# Altium integrated library Xilinx XA9500XL FPGA.IntLib: 360 symbols (part 1 of 3)
Pins are listed as number, name and electrical type; pins without a type are passive.

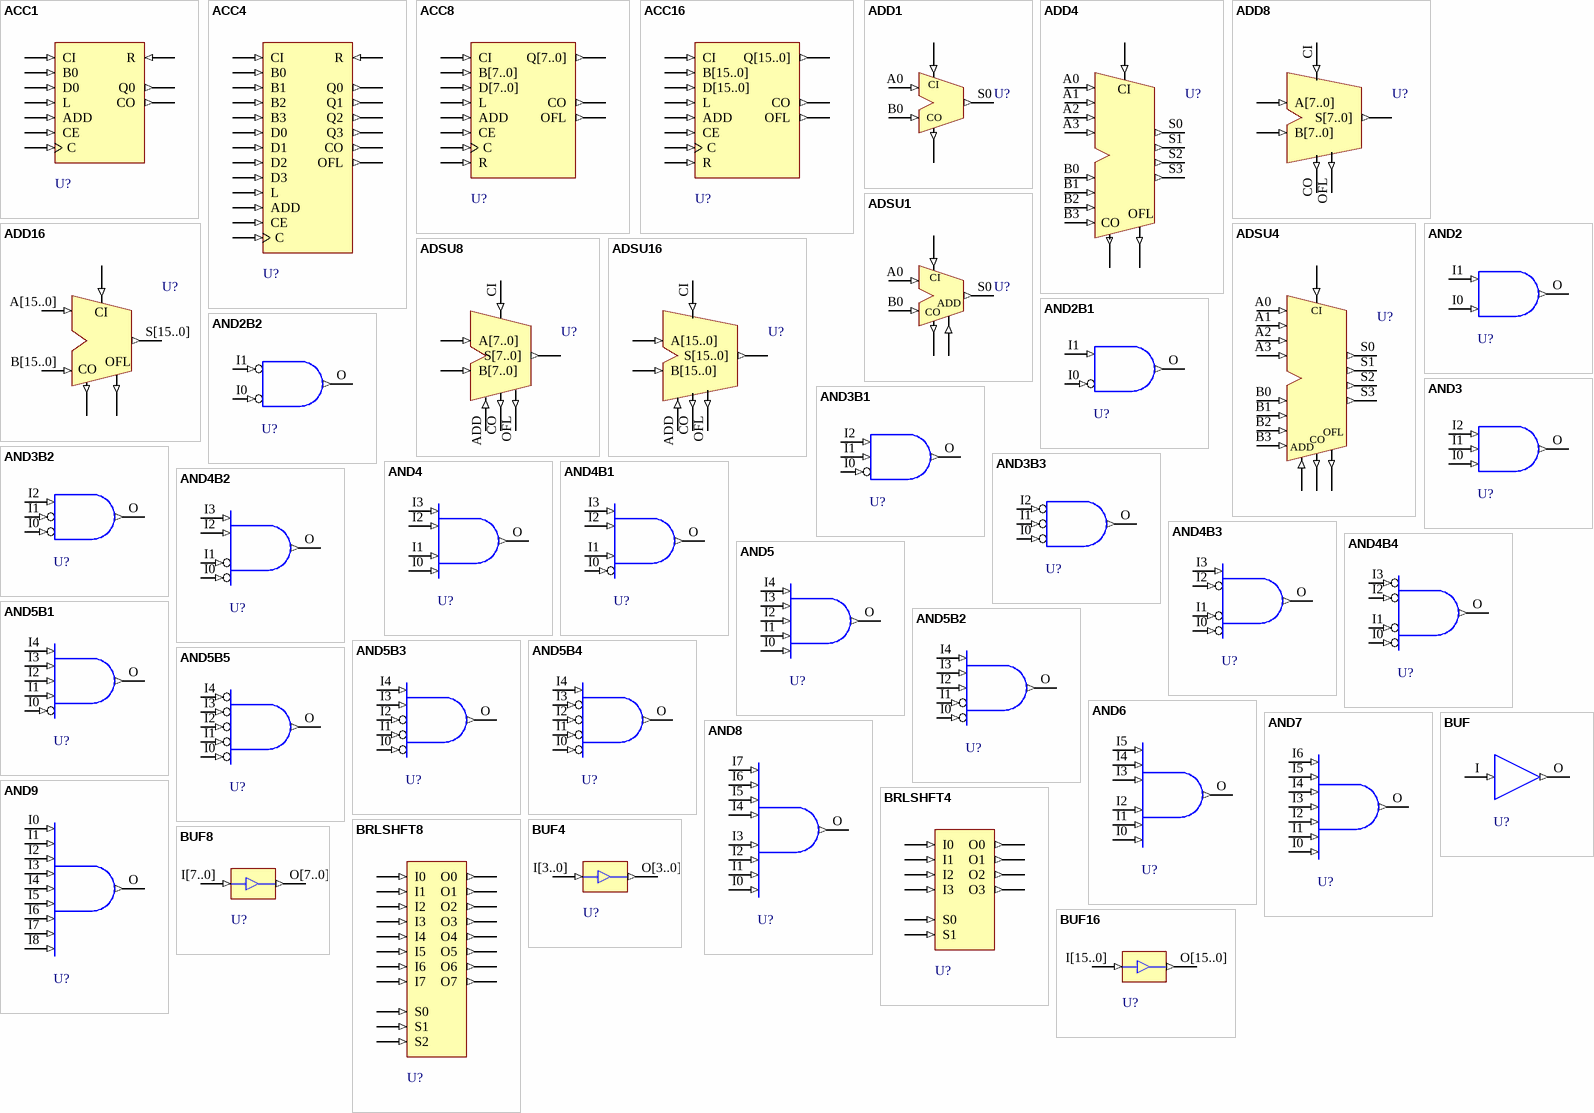
[diagram p0: symbols ACC1 to BUF16]

## ACC1
designator U?
1-Bit Loadable Cascadable Accumulator with Carry-In, Carry-Out and Synchronous Reset; FPGAVendor: Xilinx; Published: 15-Sep-2003; Publisher: Altium Limited; HelpURL: http://toolbox.xilinx.com/docsan/xilinx7/books/docs/lib/lib.pdf
pins: ADD (in), B0 (in), C (in), CE (in), CI (in), CO (out), D0 (in), L (in), Q0 (out), R (in)

## ACC4
designator U?
4-Bit Loadable Cascadable Accumulator with Carry-In, Carry-Out and Synchronous Reset; FPGAVendor: Xilinx; Published: 15-Sep-2003; Publisher: Altium Limited; HelpURL: http://toolbox.xilinx.com/docsan/xilinx7/books/docs/lib/lib.pdf
pins: ADD (in), B0 (in), B1 (in), B2 (in), B3 (in), C (in), CE (in), CI (in), CO (out), D0 (in), D1 (in), D2 (in), D3 (in), L (in), OFL (out), Q0 (out), Q1 (out), Q2 (out), Q3 (out), R (in)

## ACC8
designator U?
8-Bit Loadable Cascadable Accumulator with Carry-In, Carry-Out and Synchronous Reset; FPGAVendor: Xilinx; Published: 15-Sep-2003; Publisher: Altium Limited; HelpURL: http://toolbox.xilinx.com/docsan/xilinx7/books/docs/lib/lib.pdf
pins: ADD (in), B[7..0] (in), C (in), CE (in), CI (in), CO (out), D[7..0] (in), L (in), OFL (out), Q[7..0] (out), R (in)

## ACC16
designator U?
16-Bit Loadable Cascadable Accumulator with Carry-In, Carry-Out and Synchronous Reset; FPGAVendor: Xilinx; Published: 15-Sep-2003; Publisher: Altium Limited; HelpURL: http://toolbox.xilinx.com/docsan/xilinx7/books/docs/lib/lib.pdf
pins: ADD (in), B[15..0] (in), C (in), CE (in), CI (in), CO (out), D[15..0] (in), L (in), OFL (out), Q[15..0] (out), R (in)

## ADD1
designator U?
1-Bit Full Adder with Carry-In and Carry-Out; FPGAVendor: Xilinx; Published: 15-Sep-2003; Publisher: Altium Limited; HelpURL: http://toolbox.xilinx.com/docsan/xilinx7/books/docs/lib/lib.pdf
pins: A0 (in), B0 (in), CI (in), CO (out), S0 (out)

## ADD4
designator U?
4-Bit Cascadable Full Adders with Carry-In, Carry-Out and Overflow; FPGAVendor: Xilinx; Published: 15-Sep-2003; Publisher: Altium Limited; HelpURL: http://toolbox.xilinx.com/docsan/xilinx7/books/docs/lib/lib.pdf
pins: A0 (in), A1 (in), A2 (in), A3 (in), B0 (in), B1 (in), B2 (in), B3 (in), CI (in), CO (out), OFL (out), S0 (out), S1 (out), S2 (out), S3 (out)

## ADD8
designator U?
8-Bit Cascadable Full Adders with Carry-In, Carry-Out and Overflow; FPGAVendor: Xilinx; Published: 15-Sep-2003; Publisher: Altium Limited; HelpURL: http://toolbox.xilinx.com/docsan/xilinx7/books/docs/lib/lib.pdf
pins: A[7..0] (in), B[7..0] (in), CI (in), CO (out), OFL (out), S[7..0] (out)

## ADD16
designator U?
16-Bit Cascadable Full Adders with Carry-In, Carry-Out and Overflow; FPGAVendor: Xilinx; Published: 15-Sep-2003; Publisher: Altium Limited; HelpURL: http://toolbox.xilinx.com/docsan/xilinx7/books/docs/lib/lib.pdf
pins: A[15..0] (in), B[15..0] (in), CI (in), CO (out), OFL (out), S[15..0] (out)

## ADSU1
designator U?
1-Bit Cascadable Adder/Subtracter with Carry-In and Carry-Out; FPGAVendor: Xilinx; Published: 15-Sep-2003; Publisher: Altium Limited; HelpURL: http://toolbox.xilinx.com/docsan/xilinx7/books/docs/lib/lib.pdf
pins: A0 (in), ADD (in), B0 (in), CI (in), CO (out), S0 (out)

## ADSU4
designator U?
4-Bit Cascadable Adders/Subtracters with Carry-In, Carry-Out and Overflow; FPGAVendor: Xilinx; Published: 15-Sep-2003; Publisher: Altium Limited; HelpURL: http://toolbox.xilinx.com/docsan/xilinx7/books/docs/lib/lib.pdf
pins: A0 (in), A1 (in), A2 (in), A3 (in), ADD (in), B0 (in), B1 (in), B2 (in), B3 (in), CI (in), CO (out), OFL (out), S0 (out), S1 (out), S2 (out), S3 (out)

## ADSU8
designator U?
8-Bit Cascadable Adders/Subtracters with Carry-In, Carry-Out and Overflow; FPGAVendor: Xilinx; Published: 15-Sep-2003; Publisher: Altium Limited; HelpURL: http://toolbox.xilinx.com/docsan/xilinx7/books/docs/lib/lib.pdf
pins: A[7..0] (in), ADD (in), B[7..0] (in), CI (in), CO (out), OFL (out), S[7..0] (out)

## ADSU16
designator U?
16-Bit Cascadable Adders/Subtracters with Carry-In, Carry-Out and Overflow; FPGAVendor: Xilinx; Published: 15-Sep-2003; Publisher: Altium Limited; HelpURL: http://toolbox.xilinx.com/docsan/xilinx7/books/docs/lib/lib.pdf
pins: A[15..0] (in), ADD (in), B[15..0] (in), CI (in), CO (out), OFL (out), S[15..0] (out)

## AND2
designator U?
2-Input AND Gate; FPGAVendor: Xilinx; Published: 15-Sep-2003; Publisher: Altium Limited; HelpURL: http://toolbox.xilinx.com/docsan/xilinx7/books/docs/lib/lib.pdf
pins: I0 (in), I1 (in), O (out)

## AND2B1
designator U?
2-Input AND Gate with One Inverted Input; FPGAVendor: Xilinx; Published: 15-Sep-2003; Publisher: Altium Limited; HelpURL: http://toolbox.xilinx.com/docsan/xilinx7/books/docs/lib/lib.pdf
pins: I0 (in), I1 (in), O (out)

## AND2B2
designator U?
2-Input AND Gate with Two Inverted Inputs; FPGAVendor: Xilinx; Published: 15-Sep-2003; Publisher: Altium Limited; HelpURL: http://toolbox.xilinx.com/docsan/xilinx7/books/docs/lib/lib.pdf
pins: I0 (in), I1 (in), O (out)

## AND3
designator U?
3-Input AND Gate; FPGAVendor: Xilinx; Published: 15-Sep-2003; Publisher: Altium Limited; HelpURL: http://toolbox.xilinx.com/docsan/xilinx7/books/docs/lib/lib.pdf
pins: I0 (in), I1 (in), I2 (in), O (out)

## AND3B1
designator U?
3-Input AND Gate with One Inverted Input; FPGAVendor: Xilinx; Published: 15-Sep-2003; Publisher: Altium Limited; HelpURL: http://toolbox.xilinx.com/docsan/xilinx7/books/docs/lib/lib.pdf
pins: I0 (in), I1 (in), I2 (in), O (out)

## AND3B2
designator U?
3-Input AND Gate with Two Inverted Inputs; FPGAVendor: Xilinx; Published: 15-Sep-2003; Publisher: Altium Limited; HelpURL: http://toolbox.xilinx.com/docsan/xilinx7/books/docs/lib/lib.pdf
pins: I0 (in), I1 (in), I2 (in), O (out)

## AND3B3
designator U?
3-Input AND Gate with Three Inverted Inputs; FPGAVendor: Xilinx; Published: 15-Sep-2003; Publisher: Altium Limited; HelpURL: http://toolbox.xilinx.com/docsan/xilinx7/books/docs/lib/lib.pdf
pins: I0 (in), I1 (in), I2 (in), O (out)

## AND4
designator U?
4-Input AND Gate; FPGAVendor: Xilinx; Published: 15-Sep-2003; Publisher: Altium Limited; HelpURL: http://toolbox.xilinx.com/docsan/xilinx7/books/docs/lib/lib.pdf
pins: I0 (in), I1 (in), I2 (in), I3 (in), O (out)

## AND4B1
designator U?
4-Input AND Gate with One Inverted Input; FPGAVendor: Xilinx; Published: 15-Sep-2003; Publisher: Altium Limited; HelpURL: http://toolbox.xilinx.com/docsan/xilinx7/books/docs/lib/lib.pdf
pins: I0 (in), I1 (in), I2 (in), I3 (in), O (out)

## AND4B2
designator U?
4-Input AND Gate with Two Inverted Inputs; FPGAVendor: Xilinx; Published: 15-Sep-2003; Publisher: Altium Limited; HelpURL: http://toolbox.xilinx.com/docsan/xilinx7/books/docs/lib/lib.pdf
pins: I0 (in), I1 (in), I2 (in), I3 (in), O (out)

## AND4B3
designator U?
4-Input AND Gate with Three Inverted Inputs; FPGAVendor: Xilinx; Published: 15-Sep-2003; Publisher: Altium Limited; HelpURL: http://toolbox.xilinx.com/docsan/xilinx7/books/docs/lib/lib.pdf
pins: I0 (in), I1 (in), I2 (in), I3 (in), O (out)

## AND4B4
designator U?
4-Input AND Gate with Four Inverted Inputs; FPGAVendor: Xilinx; Published: 15-Sep-2003; Publisher: Altium Limited; HelpURL: http://toolbox.xilinx.com/docsan/xilinx7/books/docs/lib/lib.pdf
pins: I0 (in), I1 (in), I2 (in), I3 (in), O (out)

## AND5
designator U?
5-Input AND Gate; FPGAVendor: Xilinx; Published: 15-Sep-2003; Publisher: Altium Limited; HelpURL: http://toolbox.xilinx.com/docsan/xilinx7/books/docs/lib/lib.pdf
pins: I0 (in), I1 (in), I2 (in), I3 (in), I4 (in), O (out)

## AND5B1
designator U?
5-Input AND Gate with One Inverted Input; FPGAVendor: Xilinx; Published: 15-Sep-2003; Publisher: Altium Limited; HelpURL: http://toolbox.xilinx.com/docsan/xilinx7/books/docs/lib/lib.pdf
pins: I0 (in), I1 (in), I2 (in), I3 (in), I4 (in), O (out)

## AND5B2
designator U?
5-Input AND Gate with Two Inverted Inputs; FPGAVendor: Xilinx; Published: 15-Sep-2003; Publisher: Altium Limited; HelpURL: http://toolbox.xilinx.com/docsan/xilinx7/books/docs/lib/lib.pdf
pins: I0 (in), I1 (in), I2 (in), I3 (in), I4 (in), O (out)

## AND5B3
designator U?
5-Input AND Gate with Three Inverted Inputs; FPGAVendor: Xilinx; Published: 15-Sep-2003; Publisher: Altium Limited; HelpURL: http://toolbox.xilinx.com/docsan/xilinx7/books/docs/lib/lib.pdf
pins: I0 (in), I1 (in), I2 (in), I3 (in), I4 (in), O (out)

## AND5B4
designator U?
5-Input AND Gate with Four Inverted Inputs; FPGAVendor: Xilinx; Published: 15-Sep-2003; Publisher: Altium Limited; HelpURL: http://toolbox.xilinx.com/docsan/xilinx7/books/docs/lib/lib.pdf
pins: I0 (in), I1 (in), I2 (in), I3 (in), I4 (in), O (out)

## AND5B5
designator U?
5-Input AND Gate with Five Inverted Inputs; FPGAVendor: Xilinx; Published: 15-Sep-2003; Publisher: Altium Limited; HelpURL: http://toolbox.xilinx.com/docsan/xilinx7/books/docs/lib/lib.pdf
pins: I0 (in), I1 (in), I2 (in), I3 (in), I4 (in), O (out)

## AND6
designator U?
6-Input AND Gate; FPGAVendor: Xilinx; Published: 15-Sep-2003; Publisher: Altium Limited; HelpURL: http://toolbox.xilinx.com/docsan/xilinx7/books/docs/lib/lib.pdf
pins: I0 (in), I1 (in), I2 (in), I3 (in), I4 (in), I5 (in), O (out)

## AND7
designator U?
7-Input AND Gate; FPGAVendor: Xilinx; Published: 15-Sep-2003; Publisher: Altium Limited; HelpURL: http://toolbox.xilinx.com/docsan/xilinx7/books/docs/lib/lib.pdf
pins: I0 (in), I1 (in), I2 (in), I3 (in), I4 (in), I5 (in), I6 (in), O (out)

## AND8
designator U?
8-Input AND Gate; FPGAVendor: Xilinx; Published: 15-Sep-2003; Publisher: Altium Limited; HelpURL: http://toolbox.xilinx.com/docsan/xilinx7/books/docs/lib/lib.pdf
pins: I0 (in), I1 (in), I2 (in), I3 (in), I4 (in), I5 (in), I6 (in), I7 (in), O (out)

## AND9
designator U?
9-Input AND Gate; FPGAVendor: Xilinx; Published: 15-Sep-2003; Publisher: Altium Limited; HelpURL: http://toolbox.xilinx.com/docsan/xilinx7/books/docs/lib/lib.pdf
pins: I0 (in), I1 (in), I2 (in), I3 (in), I4 (in), I5 (in), I6 (in), I7 (in), I8 (in), O (out)

## BRLSHFT4
designator U?
4-Bit Barrel Shifter; FPGAVendor: Xilinx; Published: 15-Sep-2003; Publisher: Altium Limited; HelpURL: http://toolbox.xilinx.com/docsan/xilinx7/books/docs/lib/lib.pdf
pins: I0 (in), I1 (in), I2 (in), I3 (in), O0 (out), O1 (out), O2 (out), O3 (out), S0 (in), S1 (in)

## BRLSHFT8
designator U?
8-Bit Barrel Shifter; FPGAVendor: Xilinx; Published: 15-Sep-2003; Publisher: Altium Limited; HelpURL: http://toolbox.xilinx.com/docsan/xilinx7/books/docs/lib/lib.pdf
pins: I0 (in), I1 (in), I2 (in), I3 (in), I4 (in), I5 (in), I6 (in), I7 (in), O0 (out), O1 (out), O2 (out), O3 (out), O4 (out), O5 (out), O6 (out), O7 (out), S0 (in), S1 (in), S2 (in)

## BUF
designator U?
Global Clock Buffer; FPGAVendor: Xilinx; Published: 15-Sep-2003; Publisher: Altium Limited; HelpURL: http://toolbox.xilinx.com/docsan/xilinx7/books/docs/lib/lib.pdf
pins: I (in), O (out)

## BUF4
designator U?
General-Purpose Buffer; FPGAVendor: Xilinx; Published: 15-Sep-2003; Publisher: Altium Limited; HelpURL: http://toolbox.xilinx.com/docsan/xilinx7/books/docs/lib/lib.pdf
pins: I[3..0] (in), O[3..0] O0 (out)

## BUF8
designator U?
General-Purpose Buffer; FPGAVendor: Xilinx; Published: 15-Sep-2003; Publisher: Altium Limited; HelpURL: http://toolbox.xilinx.com/docsan/xilinx7/books/docs/lib/lib.pdf
pins: I[7..0] (in), O[7..0] (out)

## BUF16
designator U?
General-Purpose Buffer; FPGAVendor: Xilinx; Published: 15-Sep-2003; Publisher: Altium Limited; HelpURL: http://toolbox.xilinx.com/docsan/xilinx7/books/docs/lib/lib.pdf
pins: I[15..0] (in), O[15..0] (out)

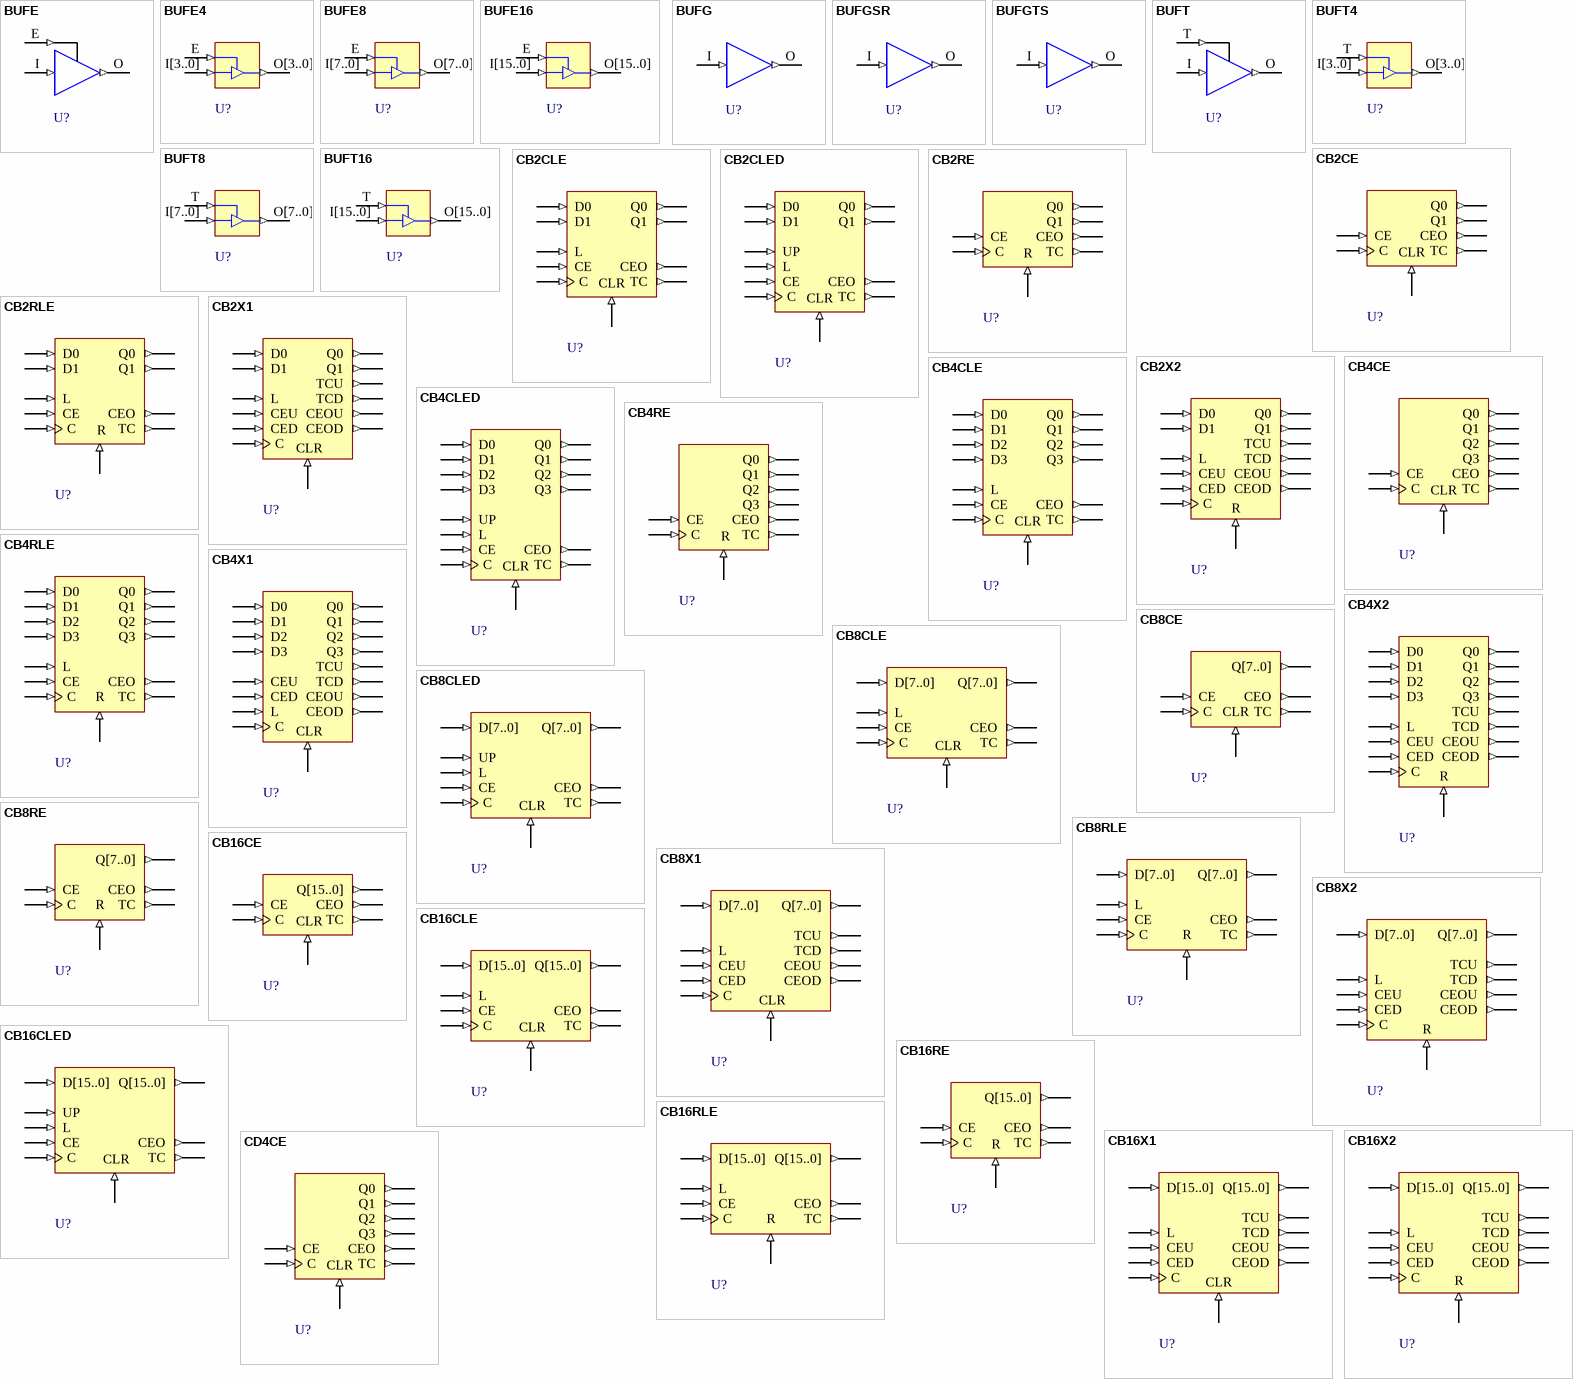
[diagram p1: symbols BUFE to CD4CE]

## BUFE
designator U?
Internal 3-State Buffers with Active High Enable; FPGAVendor: Xilinx; Published: 15-Sep-2003; Publisher: Altium Limited; HelpURL: http://toolbox.xilinx.com/docsan/xilinx7/books/docs/lib/lib.pdf
pins: E (in), I (in), O (out)

## BUFE4
designator U?
Internal 3-State Buffers with Active High Enable; FPGAVendor: Xilinx; Published: 15-Sep-2003; Publisher: Altium Limited; HelpURL: http://toolbox.xilinx.com/docsan/xilinx7/books/docs/lib/lib.pdf
pins: E (in), I[3..0] (in), O[3..0] (out)

## BUFE8
designator U?
Internal 3-State Buffers with Active High Enable; FPGAVendor: Xilinx; Published: 15-Sep-2003; Publisher: Altium Limited; HelpURL: http://toolbox.xilinx.com/docsan/xilinx7/books/docs/lib/lib.pdf
pins: E (in), I[7..0] (in), O[7..0] (out)

## BUFE16
designator U?
Internal 3-State Buffers with Active High Enable; FPGAVendor: Xilinx; Published: 15-Sep-2003; Publisher: Altium Limited; HelpURL: http://toolbox.xilinx.com/docsan/xilinx7/books/docs/lib/lib.pdf
pins: E (in), I[15..0] (in), O[15..0] (out)

## BUFG
designator U?
Global Clock Buffer; FPGAVendor: Xilinx; Published: 15-Sep-2003; Publisher: Altium Limited; HelpURL: http://toolbox.xilinx.com/docsan/xilinx7/books/docs/lib/lib.pdf
pins: I (in), O (out)

## BUFGSR
designator U?
Global Set/Reset Input Buffer; FPGAVendor: Xilinx; Published: 15-Sep-2003; Publisher: Altium Limited; HelpURL: http://toolbox.xilinx.com/docsan/xilinx7/books/docs/lib/lib.pdf
pins: I (in), O (out)

## BUFGTS
designator U?
Global Three-State Input Buffer; FPGAVendor: Xilinx; Published: 15-Sep-2003; Publisher: Altium Limited; HelpURL: http://toolbox.xilinx.com/docsan/xilinx7/books/docs/lib/lib.pdf
pins: I (in), O (out)

## BUFT
designator U?
Internal 3-State Buffer with Active-Low Enable; FPGAVendor: Xilinx; Note: not supported for XC9500XL and XC9500XV devices; Published: 15-Sep-2003; Publisher: Altium Limited; HelpURL: http://toolbox.xilinx.com/docsan/xilinx7/books/docs/lib/lib.pdf
pins: I (in), O (out), T (in)

## BUFT4
designator U?
Internal 3-State Buffers with Active-Low Enable; FPGAVendor: Xilinx; Note: not supported for XC9500XL and XC9500XV devices; Published: 15-Sep-2003; Publisher: Altium Limited; HelpURL: http://toolbox.xilinx.com/docsan/xilinx7/books/docs/lib/lib.pdf
pins: I[3..0] (in), O[3..0] (out), T (in)

## BUFT8
designator U?
Internal 3-State Buffers with Active-Low Enable; FPGAVendor: Xilinx; Note: not supported for XC9500XL and XC9500XV devices; Published: 15-Sep-2003; Publisher: Altium Limited; HelpURL: http://toolbox.xilinx.com/docsan/xilinx7/books/docs/lib/lib.pdf
pins: I[7..0] (in), O[7..0] (out), T (in)

## BUFT16
designator U?
Internal 3-State Buffers with Active-Low Enable; FPGAVendor: Xilinx; Note: not supported for XC9500XL and XC9500XV devices; Published: 15-Sep-2003; Publisher: Altium Limited; HelpURL: http://toolbox.xilinx.com/docsan/xilinx7/books/docs/lib/lib.pdf
pins: I[15..0] (in), O[15..0] (out), T (in)

## CB2CE
designator U?
2-Bit Cascadable Binary Counter with Clock Enable and Asynchronous Clear; FPGAVendor: Xilinx; Published: 15-Sep-2003; Publisher: Altium Limited; HelpURL: http://toolbox.xilinx.com/docsan/xilinx7/books/docs/lib/lib.pdf
pins: C (in), CE (in), CEO (out), CLR (in), Q0 (out), Q1 (out), TC (out)

## CB2CLE
designator U?
2-Bit Loadable Cascadable Binary Counter with Clock Enable and Asynchronous Clear; FPGAVendor: Xilinx; Published: 15-Sep-2003; Publisher: Altium Limited; HelpURL: http://toolbox.xilinx.com/docsan/xilinx7/books/docs/lib/lib.pdf
pins: C (in), CE (in), CEO (out), CLR (in), D0 (in), D1 (in), L (in), Q0 (out), Q1 (out), TC (out)

## CB2CLED
designator U?
2-Bit Loadable Cascadable Bidirectional Binary Counter with Clock Enable and Asynchronous Clear; FPGAVendor: Xilinx; Published: 15-Sep-2003; Publisher: Altium Limited; HelpURL: http://toolbox.xilinx.com/docsan/xilinx7/books/docs/lib/lib.pdf
pins: C (in), CE (in), CEO (out), CLR (in), D0 (in), D1 (in), L (in), Q0 (out), Q1 (out), TC (out), UP (in)

## CB2RE
designator U?
2-Bit Cascadable Binary Counter with Clock Enable and Synchronous Reset; FPGAVendor: Xilinx; Published: 15-Sep-2003; Publisher: Altium Limited; HelpURL: http://toolbox.xilinx.com/docsan/xilinx7/books/docs/lib/lib.pdf
pins: C (in), CE (in), CEO (out), Q0 (out), Q1 (out), R (in), TC (out)

## CB2RLE
designator U?
2-Bit Loadable Cascadable Binary Counter with Clock Enable and Synchronous Reset; FPGAVendor: Xilinx; Published: 15-Sep-2003; Publisher: Altium Limited; HelpURL: http://toolbox.xilinx.com/docsan/xilinx7/books/docs/lib/lib.pdf
pins: C (in), CE (in), CEO (out), D0 (in), D1 (in), L (in), Q0 (out), Q1 (out), R (in), TC (out)

## CB2X1
designator U?
2-Bit Loadable Cascadable Bidirectional Binary Counter with Clock Enable and Asynchronous Clear; FPGAVendor: Xilinx; Published: 15-Sep-2003; Publisher: Altium Limited; HelpURL: http://toolbox.xilinx.com/docsan/xilinx7/books/docs/lib/lib.pdf
pins: C (in), CED (in), CEOD (out), CEOU (out), CEU (in), CLR (in), D0 (in), D1 (in), L (in), Q0 (out), Q1 (out), TCD (out), TCU (out)

## CB2X2
designator U?
2-Bit Loadable Cascadable Bidirectional Binary Counter with Clock Enable and Synchronous Reset; FPGAVendor: Xilinx; Published: 15-Sep-2003; Publisher: Altium Limited; HelpURL: http://toolbox.xilinx.com/docsan/xilinx7/books/docs/lib/lib.pdf
pins: C (in), CED (in), CEOD (out), CEOU (out), CEU (in), D0 (in), D1 (in), L (in), Q0 (out), Q1 (out), R (in), TCD (out), TCU (out)

## CB4CE
designator U?
4-Bit Cascadable Binary Counter with Clock Enable and Asynchronous Clear; FPGAVendor: Xilinx; Published: 15-Sep-2003; Publisher: Altium Limited; HelpURL: http://toolbox.xilinx.com/docsan/xilinx7/books/docs/lib/lib.pdf
pins: C (in), CE (in), CEO (out), CLR (in), Q0 (out), Q1 (out), Q2 (out), Q3 (out), TC (out)

## CB4CLE
designator U?
4-Bit Loadable Cascadable Binary Counter with Clock Enable and Asynchronous Clear; FPGAVendor: Xilinx; Published: 15-Sep-2003; Publisher: Altium Limited; HelpURL: http://toolbox.xilinx.com/docsan/xilinx7/books/docs/lib/lib.pdf
pins: C (in), CE (in), CEO (out), CLR (in), D0 (in), D1 (in), D2 (in), D3 (in), L (in), Q0 (out), Q1 (out), Q2 (out), Q3 (out), TC (out)

## CB4CLED
designator U?
4-Bit Loadable Cascadable Bidirectional Binary Counter with Clock Enable and Asynchronous Clear; FPGAVendor: Xilinx; Published: 15-Sep-2003; Publisher: Altium Limited; HelpURL: http://toolbox.xilinx.com/docsan/xilinx7/books/docs/lib/lib.pdf
pins: C (in), CE (in), CEO (out), CLR (in), D0 (in), D1 (in), D2 (in), D3 (in), L (in), Q0 (out), Q1 (out), Q2 (out), Q3 (out), TC (out), UP (in)

## CB4RE
designator U?
4-Bit Cascadable Binary Counter with Clock Enable and Synchronous Reset; FPGAVendor: Xilinx; Published: 15-Sep-2003; Publisher: Altium Limited; HelpURL: http://toolbox.xilinx.com/docsan/xilinx7/books/docs/lib/lib.pdf
pins: C (in), CE (in), CEO (out), Q0 (out), Q1 (out), Q2 (out), Q3 (out), R (in), TC (out)

## CB4RLE
designator U?
4-Bit Loadable Cascadable Binary Counter with Clock Enable and Synchronous Reset; FPGAVendor: Xilinx; Published: 15-Sep-2003; Publisher: Altium Limited; HelpURL: http://toolbox.xilinx.com/docsan/xilinx7/books/docs/lib/lib.pdf
pins: C (in), CE (in), CEO (out), D0 (in), D1 (in), D2 (in), D3 (in), L (in), Q0 (out), Q1 (out), Q2 (out), Q3 (out), R (in), TC (out)

## CB4X1
designator U?
4-Bit Loadable Cascadable Bidirectional Binary Counter with Clock Enable and Asynchronous Clear; FPGAVendor: Xilinx; Published: 15-Sep-2003; Publisher: Altium Limited; HelpURL: http://toolbox.xilinx.com/docsan/xilinx7/books/docs/lib/lib.pdf
pins: C (in), CED (in), CEOD (out), CEOU (out), CEU (in), CLR (in), D0 (in), D1 (in), D2 (in), D3 (in), L (in), Q0 (out), Q1 (out), Q2 (out), Q3 (out), TCD (out), TCU (out)

## CB4X2
designator U?
4-Bit Loadable Cascadable Bidirectional Binary Counter with Clock Enable and Synchronous Reset; FPGAVendor: Xilinx; Published: 15-Sep-2003; Publisher: Altium Limited; HelpURL: http://toolbox.xilinx.com/docsan/xilinx7/books/docs/lib/lib.pdf
pins: C (in), CED (in), CEOD (out), CEOU (out), CEU (in), D0 (in), D1 (in), D2 (in), D3 (in), L (in), Q0 (out), Q1 (out), Q2 (out), Q3 (out), R (in), TCD (out), TCU (out)

## CB8CE
designator U?
8-Bit Cascadable Binary Counter with Clock Enable and Asynchronous Clear; FPGAVendor: Xilinx; Published: 15-Sep-2003; Publisher: Altium Limited; HelpURL: http://toolbox.xilinx.com/docsan/xilinx7/books/docs/lib/lib.pdf
pins: C (in), CE (in), CEO (out), CLR (in), Q[7..0] (out), TC (out)

## CB8CLE
designator U?
8-Bit Loadable Cascadable Binary Counter with Clock Enable and Asynchronous Clear; FPGAVendor: Xilinx; Published: 15-Sep-2003; Publisher: Altium Limited; HelpURL: http://toolbox.xilinx.com/docsan/xilinx7/books/docs/lib/lib.pdf
pins: C (in), CE (in), CEO (out), CLR (in), D[7..0] (in), L (in), Q[7..0] (out), TC (out)

## CB8CLED
designator U?
8-Bit Loadable Cascadable Bidirectional Binary Counter with Clock Enable and Asynchronous Clear; FPGAVendor: Xilinx; Published: 15-Sep-2003; Publisher: Altium Limited; HelpURL: http://toolbox.xilinx.com/docsan/xilinx7/books/docs/lib/lib.pdf
pins: C (in), CE (in), CEO (out), CLR (in), D[7..0] (in), L (in), Q[7..0] (out), TC (out), UP (in)

## CB8RE
designator U?
8-Bit Cascadable Binary Counter with Clock Enable and Synchronous Reset; FPGAVendor: Xilinx; Published: 15-Sep-2003; Publisher: Altium Limited; HelpURL: http://toolbox.xilinx.com/docsan/xilinx7/books/docs/lib/lib.pdf
pins: C (in), CE (in), CEO (out), Q[7..0] (out), R (in), TC (out)

## CB8RLE
designator U?
8-Bit Loadable Cascadable Binary Counter with Clock Enable and Synchronous Reset; FPGAVendor: Xilinx; Published: 15-Sep-2003; Publisher: Altium Limited; HelpURL: http://toolbox.xilinx.com/docsan/xilinx7/books/docs/lib/lib.pdf
pins: C (in), CE (in), CEO (out), D[7..0] (in), L (in), Q[7..0] (out), R (in), TC (out)

## CB8X1
designator U?
8-Bit Loadable Cascadable Bidirectional Binary Counter with Clock Enable and Asynchronous Clear; FPGAVendor: Xilinx; Published: 15-Sep-2003; Publisher: Altium Limited; HelpURL: http://toolbox.xilinx.com/docsan/xilinx7/books/docs/lib/lib.pdf
pins: C (in), CED (in), CEOD (out), CEOU (out), CEU (in), CLR (in), D[7..0] (in), L (in), Q[7..0] (out), TCD (out), TCU (out)

## CB8X2
designator U?
8-Bit Loadable Cascadable Bidirectional Binary Counter with Clock Enable and Synchronous Reset; FPGAVendor: Xilinx; Published: 15-Sep-2003; Publisher: Altium Limited; HelpURL: http://toolbox.xilinx.com/docsan/xilinx7/books/docs/lib/lib.pdf
pins: C (in), CED (in), CEOD (out), CEOU (out), CEU (in), D[7..0] (in), L (in), Q[7..0] (out), R (in), TCD (out), TCU (out)

## CB16CE
designator U?
16-Bit Cascadable Binary Counter with Clock Enable and Asynchronous Clear; FPGAVendor: Xilinx; Published: 15-Sep-2003; Publisher: Altium Limited; HelpURL: http://toolbox.xilinx.com/docsan/xilinx7/books/docs/lib/lib.pdf
pins: C (in), CE (in), CEO (out), CLR (in), Q[15..0] (out), TC (out)

## CB16CLE
designator U?
16-Bit Loadable Cascadable Binary Counters with Clock Enable and Asynchronous Clear; FPGAVendor: Xilinx; Published: 15-Sep-2003; Publisher: Altium Limited; HelpURL: http://toolbox.xilinx.com/docsan/xilinx7/books/docs/lib/lib.pdf
pins: C (in), CE (in), CEO (out), CLR (in), D[15..0] (in), L (in), Q[15..0] (out), TC (out)

## CB16CLED
designator U?
16-Bit Loadable Cascadable Bidirectional Binary Counter with Clock Enable and Asynchronous Clear; FPGAVendor: Xilinx; Published: 15-Sep-2003; Publisher: Altium Limited; HelpURL: http://toolbox.xilinx.com/docsan/xilinx7/books/docs/lib/lib.pdf
pins: C (in), CE (in), CEO (out), CLR (in), D[15..0] (in), L (in), Q[15..0] (out), TC (out), UP (in)

## CB16RE
designator U?
16-Bit Cascadable Binary Counter with Clock Enable and Synchronous Reset; FPGAVendor: Xilinx; Published: 15-Sep-2003; Publisher: Altium Limited; HelpURL: http://toolbox.xilinx.com/docsan/xilinx7/books/docs/lib/lib.pdf
pins: C (in), CE (in), CEO (out), Q[15..0] (out), R (in), TC (out)

## CB16RLE
designator U?
16-Bit Loadable Cascadable Binary Counter with Clock Enable and Synchronous Reset; FPGAVendor: Xilinx; Published: 15-Sep-2003; Publisher: Altium Limited; HelpURL: http://toolbox.xilinx.com/docsan/xilinx7/books/docs/lib/lib.pdf
pins: C (in), CE (in), CEO (out), D[15..0] (in), L (in), Q[15..0] (out), R (in), TC (out)

## CB16X1
designator U?
16-Bit Loadable Cascadable Bidirectional Binary Counter with Clock Enable and Asynchronous Clear; FPGAVendor: Xilinx; Published: 15-Sep-2003; Publisher: Altium Limited; HelpURL: http://toolbox.xilinx.com/docsan/xilinx7/books/docs/lib/lib.pdf
pins: C (in), CED (in), CEOD (out), CEOU (out), CEU (in), CLR (in), D[15..0] (in), L (in), Q[15..0] (out), TCD (out), TCU (out)

## CB16X2
designator U?
16-Bit Loadable Cascadable Bidirectional Binary Counter with Clock Enable and Synchronous Reset; FPGAVendor: Xilinx; Published: 15-Sep-2003; Publisher: Altium Limited; HelpURL: http://toolbox.xilinx.com/docsan/xilinx7/books/docs/lib/lib.pdf
pins: C (in), CED (in), CEOD (out), CEOU (out), CEU (in), D[15..0] (in), L (in), Q[15..0] (out), R (in), TCD (out), TCU (out)

## CD4CE
designator U?
4-Bit Cascadable BCD Counter with Clock Enable and Asynchronous Clear; FPGAVendor: Xilinx; Published: 15-Sep-2003; Publisher: Altium Limited; HelpURL: http://toolbox.xilinx.com/docsan/xilinx7/books/docs/lib/lib.pdf
pins: C (in), CE (in), CEO (out), CLR (in), Q0 (out), Q1 (out), Q2 (out), Q3 (out), TC (out)

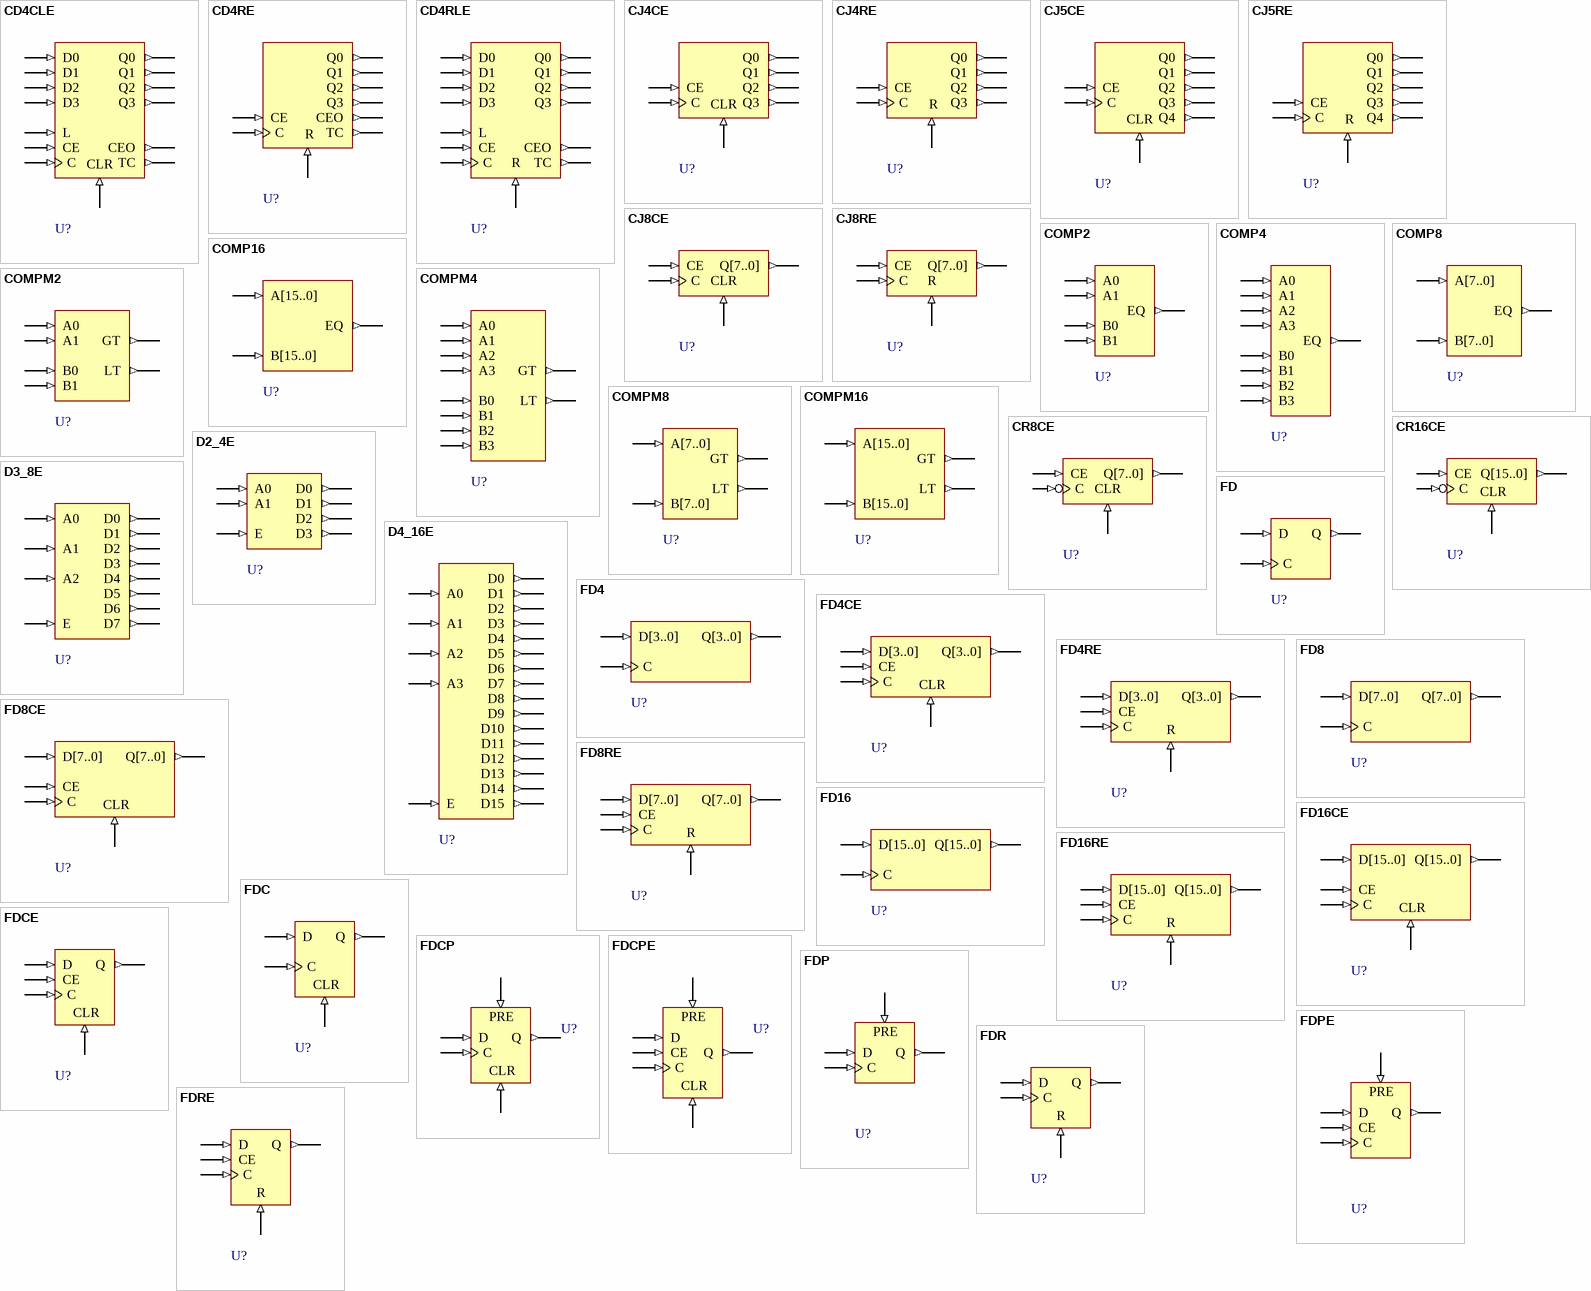
[diagram p2: symbols CD4CLE to FDRE]

## CD4CLE
designator U?
4-Bit Loadable Cascadable BCD Counter with Clock Enable and Asynchronous Clear; FPGAVendor: Xilinx; Published: 15-Sep-2003; Publisher: Altium Limited; HelpURL: http://toolbox.xilinx.com/docsan/xilinx7/books/docs/lib/lib.pdf
pins: C (in), CE (in), CEO (out), CLR (in), D0 (in), D1 (in), D2 (in), D3 (in), L (in), Q0 (out), Q1 (out), Q2 (out), Q3 (out), TC (out)

## CD4RE
designator U?
4-Bit Cascadable BCD Counter with Clock Enable and Synchronous Reset; FPGAVendor: Xilinx; Published: 15-Sep-2003; Publisher: Altium Limited; HelpURL: http://toolbox.xilinx.com/docsan/xilinx7/books/docs/lib/lib.pdf
pins: C (in), CE (in), CEO (out), Q0 (out), Q1 (out), Q2 (out), Q3 (out), R (in), TC (out)

## CD4RLE
designator U?
4-Bit Loadable Cascadable BCD Counter with Clock Enable and Synchronous Reset; FPGAVendor: Xilinx; Published: 15-Sep-2003; Publisher: Altium Limited; HelpURL: http://toolbox.xilinx.com/docsan/xilinx7/books/docs/lib/lib.pdf
pins: C (in), CE (in), CEO (out), D0 (in), D1 (in), D2 (in), D3 (in), L (in), Q0 (out), Q1 (out), Q2 (out), Q3 (out), R (in), TC (out)

## CJ4CE
designator U?
4-Bit Johnson Counter with Clock Enable and Asynchronous Clear; FPGAVendor: Xilinx; Published: 15-Sep-2003; Publisher: Altium Limited; HelpURL: http://toolbox.xilinx.com/docsan/xilinx7/books/docs/lib/lib.pdf
pins: C (in), CE (in), CLR (in), Q0 (out), Q1 (out), Q2 (out), Q3 (out)

## CJ4RE
designator U?
4-Bit Johnson Counter with Clock Enable and Synchronous Reset; FPGAVendor: Xilinx; Published: 15-Sep-2003; Publisher: Altium Limited; HelpURL: http://toolbox.xilinx.com/docsan/xilinx7/books/docs/lib/lib.pdf
pins: C (in), CE (in), Q0 (out), Q1 (out), Q2 (out), Q3 (out), R (in)

## CJ5CE
designator U?
5-Bit Johnson Counter with Clock Enable and Asynchronous Clear; FPGAVendor: Xilinx; Published: 15-Sep-2003; Publisher: Altium Limited; HelpURL: http://toolbox.xilinx.com/docsan/xilinx7/books/docs/lib/lib.pdf
pins: C (in), CE (in), CLR (in), Q0 (out), Q1 (out), Q2 (out), Q3 (out), Q4 (out)

## CJ5RE
designator U?
5-Bit Johnson Counters with Clock Enable and Synchronous Reset; FPGAVendor: Xilinx; Published: 15-Sep-2003; Publisher: Altium Limited; HelpURL: http://toolbox.xilinx.com/docsan/xilinx7/books/docs/lib/lib.pdf
pins: C (in), CE (in), Q0 (out), Q1 (out), Q2 (out), Q3 (out), Q4 (out), R (in)

## CJ8CE
designator U?
8-Bit Johnson Counter with Clock Enable and Asynchronous Clear; FPGAVendor: Xilinx; Published: 15-Sep-2003; Publisher: Altium Limited; HelpURL: http://toolbox.xilinx.com/docsan/xilinx7/books/docs/lib/lib.pdf
pins: C (in), CE (in), CLR (in), Q[7..0] (out)

## CJ8RE
designator U?
8-Bit Johnson Counter with Clock Enable and Synchronous Reset; FPGAVendor: Xilinx; Published: 15-Sep-2003; Publisher: Altium Limited; HelpURL: http://toolbox.xilinx.com/docsan/xilinx7/books/docs/lib/lib.pdf
pins: C (in), CE (in), Q[7..0] (out), R (in)

## COMP2
designator U?
2-Bit Identity Comparator; FPGAVendor: Xilinx; Published: 15-Sep-2003; Publisher: Altium Limited; HelpURL: http://toolbox.xilinx.com/docsan/xilinx7/books/docs/lib/lib.pdf
pins: A0 (in), A1 (in), B0 (in), B1 (in), EQ (out)

## COMP4
designator U?
4-Bit Identity Comparator; FPGAVendor: Xilinx; Published: 15-Sep-2003; Publisher: Altium Limited; HelpURL: http://toolbox.xilinx.com/docsan/xilinx7/books/docs/lib/lib.pdf
pins: A0 (in), A1 (in), A2 (in), A3 (in), B0 (in), B1 (in), B2 (in), B3 (in), EQ (out)

## COMP8
designator U?
8-Bit Identity Comparator; FPGAVendor: Xilinx; Published: 15-Sep-2003; Publisher: Altium Limited; HelpURL: http://toolbox.xilinx.com/docsan/xilinx7/books/docs/lib/lib.pdf
pins: A[7..0] (in), B[7..0] (in), EQ (out)

## COMP16
designator U?
16-Bit Identity Comparator; FPGAVendor: Xilinx; Published: 15-Sep-2003; Publisher: Altium Limited; HelpURL: http://toolbox.xilinx.com/docsan/xilinx7/books/docs/lib/lib.pdf
pins: A[15..0] (in), B[15..0] (in), EQ (out)

## COMPM2
designator U?
2-Bit Magnitude Comparator; FPGAVendor: Xilinx; Published: 15-Sep-2003; Publisher: Altium Limited; HelpURL: http://toolbox.xilinx.com/docsan/xilinx7/books/docs/lib/lib.pdf
pins: A0 (in), A1 (in), B0 (in), B1 (in), GT (out), LT (out)

## COMPM4
designator U?
4-Bit Magnitude Comparator; FPGAVendor: Xilinx; Published: 15-Sep-2003; Publisher: Altium Limited; HelpURL: http://toolbox.xilinx.com/docsan/xilinx7/books/docs/lib/lib.pdf
pins: A0 (in), A1 (in), A2 (in), A3 (in), B0 (in), B1 (in), B2 (in), B3 (in), GT (out), LT (out)

## COMPM8
designator U?
8-Bit Magnitude Comparator; FPGAVendor: Xilinx; Published: 15-Sep-2003; Publisher: Altium Limited; HelpURL: http://toolbox.xilinx.com/docsan/xilinx7/books/docs/lib/lib.pdf
pins: A[7..0] (in), B[7..0] (in), GT (out), LT (out)

## COMPM16
designator U?
16-Bit Magnitude Comparator; FPGAVendor: Xilinx; Published: 15-Sep-2003; Publisher: Altium Limited; HelpURL: http://toolbox.xilinx.com/docsan/xilinx7/books/docs/lib/lib.pdf
pins: A[15..0] (in), B[15..0] (in), GT (out), LT (out)

## CR8CE
designator U?
8-Bit Negative-Edge Binary Ripple Counter with Clock Enable and Asynchronous Clear; FPGAVendor: Xilinx; Published: 15-Sep-2003; Publisher: Altium Limited; HelpURL: http://toolbox.xilinx.com/docsan/xilinx7/books/docs/lib/lib.pdf
pins: C (in), CE (in), CLR (in), Q[7..0] (out)

## CR16CE
designator U?
16-Bit Negative-Edge Binary Ripple Counter with Clock Enable and Asynchronous Clear; FPGAVendor: Xilinx; Published: 15-Sep-2003; Publisher: Altium Limited; HelpURL: http://toolbox.xilinx.com/docsan/xilinx7/books/docs/lib/lib.pdf
pins: C (in), CE (in), CLR (in), Q[15..0] (out)

## D2_4E
designator U?
2- to 4-Line Decoder/Demultiplexer with Enable; FPGAVendor: Xilinx; Published: 15-Sep-2003; Publisher: Altium Limited; HelpURL: http://toolbox.xilinx.com/docsan/xilinx7/books/docs/lib/lib.pdf
pins: A0 (in), A1 (in), D0 (out), D1 (out), D2 (out), D3 (out), E (in)

## D3_8E
designator U?
3- to 8-Line Decoder/Demultiplexer with Enable; FPGAVendor: Xilinx; Published: 15-Sep-2003; Publisher: Altium Limited; HelpURL: http://toolbox.xilinx.com/docsan/xilinx7/books/docs/lib/lib.pdf
pins: A0 (in), A1 (in), A2 (in), D0 (out), D1 (out), D2 (out), D3 (out), D4 (out), D5 (out), D6 (out), D7 (out), E (in)

## D4_16E
designator U?
4- to 16-Line Decoder/Demultiplexer with Enable; FPGAVendor: Xilinx; Published: 15-Sep-2003; Publisher: Altium Limited; HelpURL: http://toolbox.xilinx.com/docsan/xilinx7/books/docs/lib/lib.pdf
pins: A0 (in), A1 (in), A2 (in), A3 (in), D0 (out), D1 (out), D2 (out), D3 (out), D4 (out), D5 (out), D6 (out), D7 (out), D8 (out), D9 (out), D10 (out), D11 (out), D12 (out), D13 (out), D14 (out), D15 (out), E (in)

## FD
designator U?
D Flip-Flop; FPGAVendor: Xilinx; Published: 15-Sep-2003; Publisher: Altium Limited; HelpURL: http://toolbox.xilinx.com/docsan/xilinx7/books/docs/lib/lib.pdf
pins: C (in), D (in), Q (out)

## FD4
designator U?
Multiple D Flip-Flops; FPGAVendor: Xilinx; Published: 15-Sep-2003; Publisher: Altium Limited; HelpURL: http://toolbox.xilinx.com/docsan/xilinx7/books/docs/lib/lib.pdf
pins: C (in), D[3..0] (in), Q[3..0] (out)

## FD4CE
designator U?
4-Bit Data Registers with Clock Enable and Asynchronous Clear; FPGAVendor: Xilinx; Published: 15-Sep-2003; Publisher: Altium Limited; HelpURL: http://toolbox.xilinx.com/docsan/xilinx7/books/docs/lib/lib.pdf
pins: C (in), CE (in), CLR (in), D[3..0] (in), Q[3..0] (out)

## FD4RE
designator U?
4-Bit Data Registers with Clock Enable and Synchronous Reset; FPGAVendor: Xilinx; Published: 15-Sep-2003; Publisher: Altium Limited; HelpURL: http://toolbox.xilinx.com/docsan/xilinx7/books/docs/lib/lib.pdf
pins: C (in), CE (in), D[3..0] (in), Q[3..0] (out), R (in)

## FD8
designator U?
Multiple D Flip-Flops; FPGAVendor: Xilinx; Published: 15-Sep-2003; Publisher: Altium Limited; HelpURL: http://toolbox.xilinx.com/docsan/xilinx7/books/docs/lib/lib.pdf
pins: C (in), D[7..0] (in), Q[7..0] (out)

## FD8CE
designator U?
8-Bit Data Registers with Clock Enable and Asynchronous Clear; FPGAVendor: Xilinx; Published: 15-Sep-2003; Publisher: Altium Limited; HelpURL: http://toolbox.xilinx.com/docsan/xilinx7/books/docs/lib/lib.pdf
pins: C (in), CE (in), CLR (in), D[7..0] (in), Q[7..0] (out)

## FD8RE
designator U?
8-Bit Data Registers with Clock Enable and Synchronous Reset; FPGAVendor: Xilinx; Published: 15-Sep-2003; Publisher: Altium Limited; HelpURL: http://toolbox.xilinx.com/docsan/xilinx7/books/docs/lib/lib.pdf
pins: C (in), CE (in), D[7..0] (in), Q[7..0] (out), R (in)

## FD16
designator U?
Multiple D Flip-Flops; FPGAVendor: Xilinx; Published: 15-Sep-2003; Publisher: Altium Limited; HelpURL: http://toolbox.xilinx.com/docsan/xilinx7/books/docs/lib/lib.pdf
pins: C (in), D[15..0] (in), Q[15..0] (out)

## FD16CE
designator U?
16-Bit Data Registers with Clock Enable and Asynchronous Clear; FPGAVendor: Xilinx; Published: 15-Sep-2003; Publisher: Altium Limited; HelpURL: http://toolbox.xilinx.com/docsan/xilinx7/books/docs/lib/lib.pdf
pins: C (in), CE (in), CLR (in), D[15..0] (in), Q[15..0] (out)

## FD16RE
designator U?
16-Bit Data Registers with Clock Enable and Synchronous Reset; FPGAVendor: Xilinx; Published: 15-Sep-2003; Publisher: Altium Limited; HelpURL: http://toolbox.xilinx.com/docsan/xilinx7/books/docs/lib/lib.pdf
pins: C (in), CE (in), D[15..0] (in), Q[15..0] (out), R (in)

## FDC
designator U?
D Flip-Flop with Asynchronous Clear; FPGAVendor: Xilinx; Published: 15-Sep-2003; Publisher: Altium Limited; HelpURL: http://toolbox.xilinx.com/docsan/xilinx7/books/docs/lib/lib.pdf
pins: C (in), CLR (in), D (in), Q (out)

## FDCE
designator U?
D Flip-Flop with Clock Enable and Asynchronous Clear; FPGAVendor: Xilinx; Published: 15-Sep-2003; Publisher: Altium Limited; HelpURL: http://toolbox.xilinx.com/docsan/xilinx7/books/docs/lib/lib.pdf
pins: C (in), CE (in), CLR (in), D (in), Q (out)

## FDCP
designator U?
D Flip-Flop Asynchronous Preset and Clear; FPGAVendor: Xilinx; Published: 15-Sep-2003; Publisher: Altium Limited; HelpURL: http://toolbox.xilinx.com/docsan/xilinx7/books/docs/lib/lib.pdf
pins: C (in), CLR (in), D (in), PRE (in), Q (out)

## FDCPE
designator U?
D Flip-Flop with Clock Enable and Asynchronous Preset and Clear; FPGAVendor: Xilinx; Published: 15-Sep-2003; Publisher: Altium Limited; HelpURL: http://toolbox.xilinx.com/docsan/xilinx7/books/docs/lib/lib.pdf
pins: C (in), CE (in), CLR (in), D (in), PRE (in), Q (out)

## FDP
designator U?
D Flip-Flop with Asynchronous Preset; FPGAVendor: Xilinx; Published: 15-Sep-2003; Publisher: Altium Limited; HelpURL: http://toolbox.xilinx.com/docsan/xilinx7/books/docs/lib/lib.pdf
pins: C (in), D (in), PRE (in), Q (out)

## FDPE
designator U?
D Flip-Flop with Clock Enable and Asynchronous Preset; FPGAVendor: Xilinx; Published: 15-Sep-2003; Publisher: Altium Limited; HelpURL: http://toolbox.xilinx.com/docsan/xilinx7/books/docs/lib/lib.pdf
pins: C (in), CE (in), D (in), PRE (in), Q (out)

## FDR
designator U?
D Flip-Flop with Synchronous Reset; FPGAVendor: Xilinx; Published: 15-Sep-2003; Publisher: Altium Limited; HelpURL: http://toolbox.xilinx.com/docsan/xilinx7/books/docs/lib/lib.pdf
pins: C (in), D (in), Q (out), R (in)

## FDRE
designator U?
D Flip-Flop with Clock Enable and Synchronous Reset; FPGAVendor: Xilinx; Published: 15-Sep-2003; Publisher: Altium Limited; HelpURL: http://toolbox.xilinx.com/docsan/xilinx7/books/docs/lib/lib.pdf
pins: C (in), CE (in), D (in), Q (out), R (in)

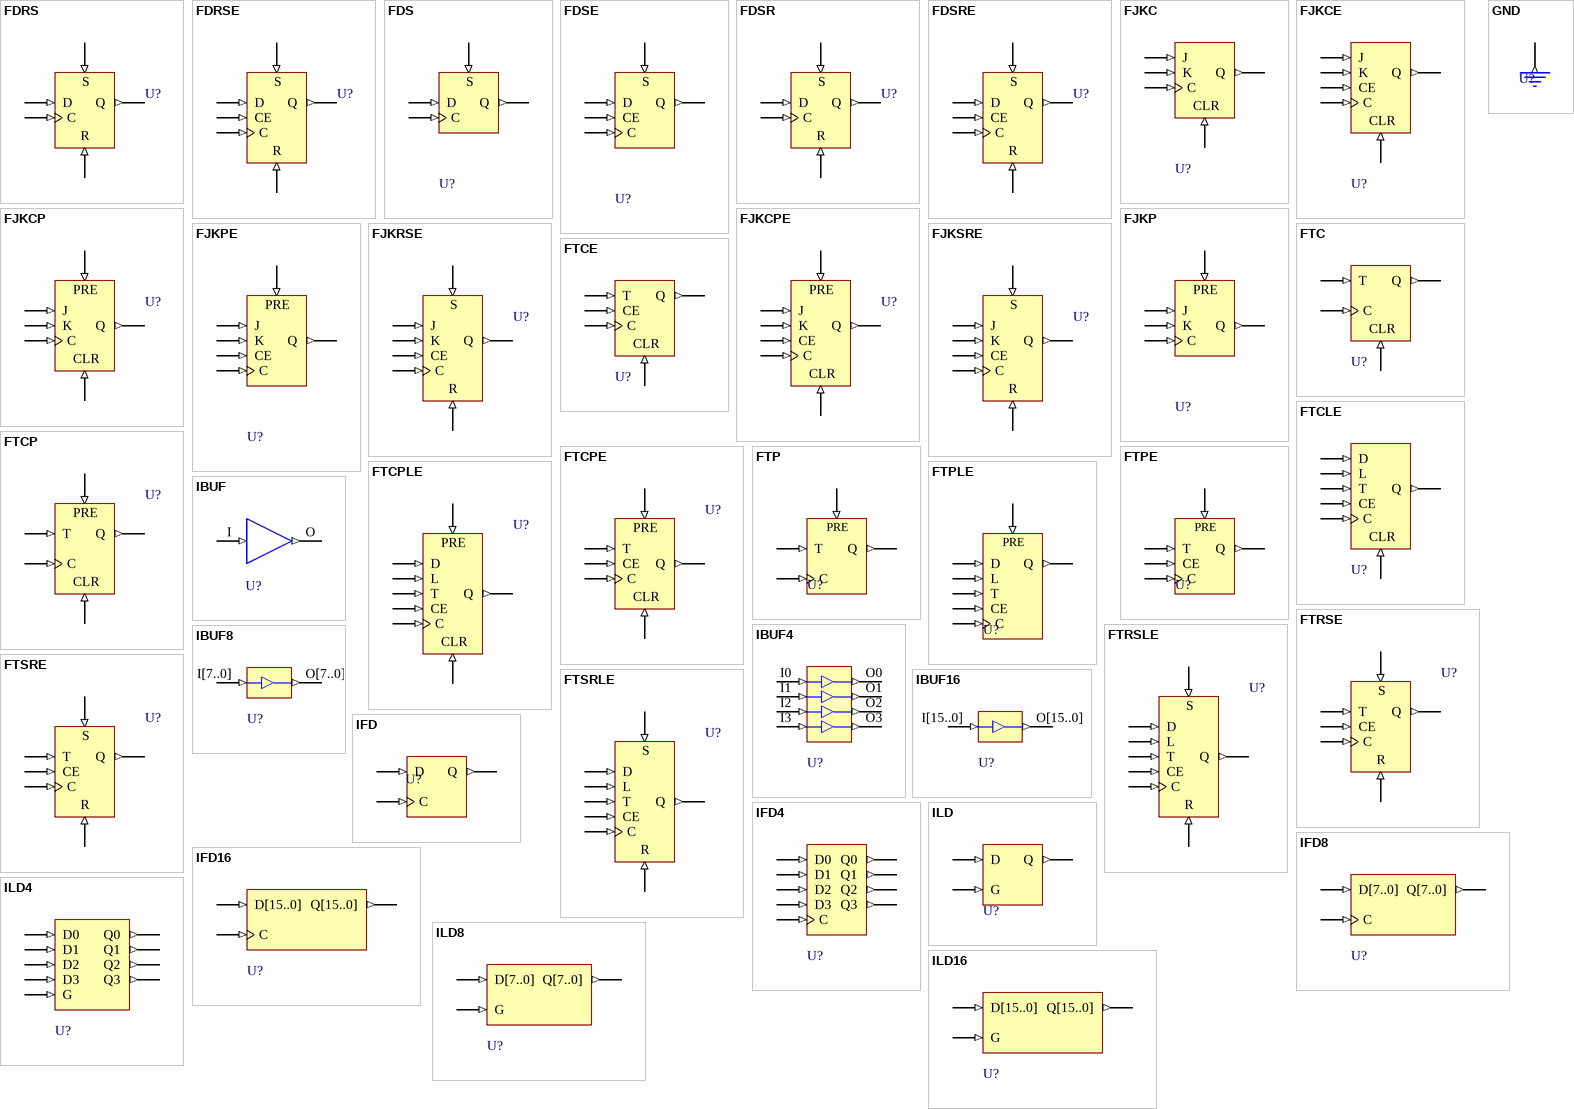
[diagram p3: symbols FDRS to ILD16]

## FDRS
designator U?
D Flip-Flop with Synchronous Reset and Set; FPGAVendor: Xilinx; Published: 15-Sep-2003; Publisher: Altium Limited; HelpURL: http://toolbox.xilinx.com/docsan/xilinx7/books/docs/lib/lib.pdf
pins: C (in), D (in), Q (out), R (in), S (in)

## FDRSE
designator U?
D Flip-Flop with Synchronous Reset and Set and Clock Enable; FPGAVendor: Xilinx; Published: 15-Sep-2003; Publisher: Altium Limited; HelpURL: http://toolbox.xilinx.com/docsan/xilinx7/books/docs/lib/lib.pdf
pins: C (in), CE (in), D (in), Q (out), R (in), S (in)

## FDS
designator U?
D Flip-Flop with Synchronous Set; FPGAVendor: Xilinx; Published: 15-Sep-2003; Publisher: Altium Limited; HelpURL: http://toolbox.xilinx.com/docsan/xilinx7/books/docs/lib/lib.pdf
pins: C (in), D (in), Q (out), S (in)

## FDSE
designator U?
D Flip-Flop with Clock Enable and Synchronous Set; FPGAVendor: Xilinx; Published: 15-Sep-2003; Publisher: Altium Limited; HelpURL: http://toolbox.xilinx.com/docsan/xilinx7/books/docs/lib/lib.pdf
pins: C (in), CE (in), D (in), Q (out), S (in)

## FDSR
designator U?
D Flip-Flop with Synchronous Set and Reset; FPGAVendor: Xilinx; Published: 15-Sep-2003; Publisher: Altium Limited; HelpURL: http://toolbox.xilinx.com/docsan/xilinx7/books/docs/lib/lib.pdf
pins: C (in), D (in), Q (out), R (in), S (in)

## FDSRE
designator U?
D Flip-Flop with Synchronous Set and Reset and Clock Enable; FPGAVendor: Xilinx; Published: 15-Sep-2003; Publisher: Altium Limited; HelpURL: http://toolbox.xilinx.com/docsan/xilinx7/books/docs/lib/lib.pdf
pins: C (in), CE (in), D (in), Q (out), R (in), S (in)

## FJKC
designator U?
J-K Flip-Flop with Asynchronous Clear; FPGAVendor: Xilinx; Published: 15-Sep-2003; Publisher: Altium Limited; HelpURL: http://toolbox.xilinx.com/docsan/xilinx7/books/docs/lib/lib.pdf
pins: C (in), CLR (in), J (in), K (in), Q (out)

## FJKCE
designator U?
J-K Flip-Flop with Clock Enable and Asynchronous Clear; FPGAVendor: Xilinx; Published: 15-Sep-2003; Publisher: Altium Limited; HelpURL: http://toolbox.xilinx.com/docsan/xilinx7/books/docs/lib/lib.pdf
pins: C (in), CE (in), CLR (in), J (in), K (in), Q (out)

## FJKCP
designator U?
J-K Flip-Flop with Asynchronous Clear and Preset; FPGAVendor: Xilinx; Published: 15-Sep-2003; Publisher: Altium Limited; HelpURL: http://toolbox.xilinx.com/docsan/xilinx7/books/docs/lib/lib.pdf
pins: C (in), CLR (in), J (in), K (in), PRE (in), Q (out)

## FJKCPE
designator U?
J-K Flip-Flop with Asynchronous Clear and Preset and Clock Enable; FPGAVendor: Xilinx; Published: 15-Sep-2003; Publisher: Altium Limited; HelpURL: http://toolbox.xilinx.com/docsan/xilinx7/books/docs/lib/lib.pdf
pins: C (in), CE (in), CLR (in), J (in), K (in), PRE (in), Q (out)

## FJKP
designator U?
J-K Flip-Flop with Asynchronous Preset; FPGAVendor: Xilinx; Published: 15-Sep-2003; Publisher: Altium Limited; HelpURL: http://toolbox.xilinx.com/docsan/xilinx7/books/docs/lib/lib.pdf
pins: C (in), J (in), K (in), PRE (in), Q (out)

## FJKPE
designator U?
J-K Flip-Flop with Clock Enable and Asynchronous Preset; FPGAVendor: Xilinx; Published: 15-Sep-2003; Publisher: Altium Limited; HelpURL: http://toolbox.xilinx.com/docsan/xilinx7/books/docs/lib/lib.pdf
pins: C (in), CE (in), J (in), K (in), PRE (in), Q (out)

## FJKRSE
designator U?
J-K Flip-Flop with Clock Enable and Synchronous Reset and Set; FPGAVendor: Xilinx; Published: 15-Sep-2003; Publisher: Altium Limited; HelpURL: http://toolbox.xilinx.com/docsan/xilinx7/books/docs/lib/lib.pdf
pins: C (in), CE (in), J (in), K (in), Q (out), R (in), S (in)

## FJKSRE
designator U?
J-K Flip-Flop with Clock Enable and Synchronous Set and Reset; FPGAVendor: Xilinx; Published: 15-Sep-2003; Publisher: Altium Limited; HelpURL: http://toolbox.xilinx.com/docsan/xilinx7/books/docs/lib/lib.pdf
pins: C (in), CE (in), J (in), K (in), Q (out), R (in), S (in)

## FTC
designator U?
Toggle Flip-Flop with Toggle Enable and Asynchronous Clear; FPGAVendor: Xilinx; Published: 15-Sep-2003; Publisher: Altium Limited; HelpURL: http://toolbox.xilinx.com/docsan/xilinx7/books/docs/lib/lib.pdf
pins: C (in), CLR (in), Q (out), T (in)

## FTCE
designator U?
Toggle Flip-Flop with Toggle and Clock Enable and Asynchronous Clear; FPGAVendor: Xilinx; Published: 15-Sep-2003; Publisher: Altium Limited; HelpURL: http://toolbox.xilinx.com/docsan/xilinx7/books/docs/lib/lib.pdf
pins: C (in), CE (in), CLR (in), Q (out), T (in)

## FTCLE
designator U?
Toggle/Loadable Flip-Flop with Toggle and Clock Enable and Asynchronous Clear; FPGAVendor: Xilinx; Published: 15-Sep-2003; Publisher: Altium Limited; HelpURL: http://toolbox.xilinx.com/docsan/xilinx7/books/docs/lib/lib.pdf
pins: C (in), CE (in), CLR (in), D (in), L (in), Q (out), T (in)

## FTCP
designator U?
Toggle Flip-Flop with Toggle Enable and Asynchronous Clear and Preset; FPGAVendor: Xilinx; Published: 15-Sep-2003; Publisher: Altium Limited; HelpURL: http://toolbox.xilinx.com/docsan/xilinx7/books/docs/lib/lib.pdf
pins: C (in), CLR (in), PRE (in), Q (out), T (in)

## FTCPE
designator U?
Toggle Flip-Flop with Toggle and Clock Enable and Asynchronous Clear and Preset; FPGAVendor: Xilinx; Published: 15-Sep-2003; Publisher: Altium Limited; HelpURL: http://toolbox.xilinx.com/docsan/xilinx7/books/docs/lib/lib.pdf
pins: C (in), CE (in), CLR (in), PRE (in), Q (out), T (in)

## FTCPLE
designator U?
Loadable Toggle Flip-Flop with Toggle and Clock Enable and Asynchronous Clear and Preset; FPGAVendor: Xilinx; Published: 15-Sep-2003; Publisher: Altium Limited; HelpURL: http://toolbox.xilinx.com/docsan/xilinx7/books/docs/lib/lib.pdf
pins: C (in), CE (in), CLR (in), D (in), L (in), PRE (in), Q (out), T (in)

## FTP
designator U?
Toggle Flip-Flop with Toggle Enable and Asynchronous Preset; FPGAVendor: Xilinx; Published: 15-Sep-2003; Publisher: Altium Limited; HelpURL: http://toolbox.xilinx.com/docsan/xilinx7/books/docs/lib/lib.pdf
pins: C (in), PRE (in), Q (out), T (in)

## FTPE
designator U?
Toggle Flip-Flop with Toggle and Clock Enable and Asynchronous Preset; FPGAVendor: Xilinx; Published: 15-Sep-2003; Publisher: Altium Limited; HelpURL: http://toolbox.xilinx.com/docsan/xilinx7/books/docs/lib/lib.pdf
pins: C (in), CE (in), PRE (in), Q (out), T (in)

## FTPLE
designator U?
Toggle/Loadable Flip-Flop with Toggle and Clock Enable and Asynchronous Preset; FPGAVendor: Xilinx; Published: 15-Sep-2003; Publisher: Altium Limited; HelpURL: http://toolbox.xilinx.com/docsan/xilinx7/books/docs/lib/lib.pdf
pins: C (in), CE (in), D (in), L (in), PRE (in), Q (out), T (in)

## FTRSE
designator U?
Toggle Flip-Flop with Toggle and Clock Enable and Synchronous Reset and Set; FPGAVendor: Xilinx; Published: 15-Sep-2003; Publisher: Altium Limited; HelpURL: http://toolbox.xilinx.com/docsan/xilinx7/books/docs/lib/lib.pdf
pins: C (in), CE (in), Q (out), R (in), S (in), T (in)

## FTRSLE
designator U?
Toggle/Loadable Flip-Flop with Toggle and Clock Enable and Synchronous Reset and Set; FPGAVendor: Xilinx; Published: 15-Sep-2003; Publisher: Altium Limited; HelpURL: http://toolbox.xilinx.com/docsan/xilinx7/books/docs/lib/lib.pdf
pins: C (in), CE (in), D (in), L (in), Q (out), R (in), S (in), T (in)

## FTSRE
designator U?
Toggle Flip-Flop with Toggle and Clock Enable and Synchronous Set and Reset; FPGAVendor: Xilinx; Published: 15-Sep-2003; Publisher: Altium Limited; HelpURL: http://toolbox.xilinx.com/docsan/xilinx7/books/docs/lib/lib.pdf
pins: C (in), CE (in), Q (out), R (in), S (in), T (in)

## FTSRLE
designator U?
Toggle/Loadable Flip-Flop with Toggle and Clock Enable and Synchronous Set and Reset; FPGAVendor: Xilinx; Published: 15-Sep-2003; Publisher: Altium Limited; HelpURL: http://toolbox.xilinx.com/docsan/xilinx7/books/docs/lib/lib.pdf
pins: C (in), CE (in), D (in), L (in), Q (out), R (in), S (in), T (in)

## GND
designator U?
Ground-Connection Signal Tag; FPGAVendor: Xilinx; Published: 15-Sep-2003; Publisher: Altium Limited; HelpURL: http://toolbox.xilinx.com/docsan/xilinx7/books/docs/lib/lib.pdf
pins: G (out)

## IBUF
designator U?
Single-Input Buffer; FPGAVendor: Xilinx; Published: 15-Sep-2003; Publisher: Altium Limited; HelpURL: http://toolbox.xilinx.com/docsan/xilinx7/books/docs/lib/lib.pdf
pins: I (in), O (out)

## IBUF4
designator U?
Multiple-Input Buffer; FPGAVendor: Xilinx; Published: 15-Sep-2003; Publisher: Altium Limited; HelpURL: http://toolbox.xilinx.com/docsan/xilinx7/books/docs/lib/lib.pdf
pins: I0 (in), I1 (in), I2 (in), I3 (in), O0 (out), O1 (out), O2 (out), O3 (out)

## IBUF8
designator U?
Multiple-Input Buffer; FPGAVendor: Xilinx; Published: 15-Sep-2003; Publisher: Altium Limited; HelpURL: http://toolbox.xilinx.com/docsan/xilinx7/books/docs/lib/lib.pdf
pins: I[7..0] (in), O[7..0] (out)

## IBUF16
designator U?
Multiple-Input Buffer; FPGAVendor: Xilinx; Published: 15-Sep-2003; Publisher: Altium Limited; HelpURL: http://toolbox.xilinx.com/docsan/xilinx7/books/docs/lib/lib.pdf
pins: I[15..0] (in), O[15..0] (out)

## IFD
designator U?
Single-Input D Flip-Flop; FPGAVendor: Xilinx; Published: 15-Sep-2003; Publisher: Altium Limited; HelpURL: http://toolbox.xilinx.com/docsan/xilinx7/books/docs/lib/lib.pdf
pins: C (in), D (in), Q (out)

## IFD4
designator U?
Multiple-Input D Flip-Flop; FPGAVendor: Xilinx; Published: 15-Sep-2003; Publisher: Altium Limited; HelpURL: http://toolbox.xilinx.com/docsan/xilinx7/books/docs/lib/lib.pdf
pins: C (in), D0 (in), D1 (in), D2 (in), D3 (in), Q0 (out), Q1 (out), Q2 (out), Q3 (out)

## IFD8
designator U?
Multiple-Input D Flip-Flop; FPGAVendor: Xilinx; Published: 15-Sep-2003; Publisher: Altium Limited; HelpURL: http://toolbox.xilinx.com/docsan/xilinx7/books/docs/lib/lib.pdf
pins: C (in), D[7..0] (in), Q[7..0] (out)

## IFD16
designator U?
Multiple-Input D Flip-Flop; FPGAVendor: Xilinx; Published: 15-Sep-2003; Publisher: Altium Limited; HelpURL: http://toolbox.xilinx.com/docsan/xilinx7/books/docs/lib/lib.pdf
pins: C (in), D[15..0] (in), Q[15..0] (out)

## ILD
designator U?
Transparent Input Data Latch; FPGAVendor: Xilinx; Published: 15-Sep-2003; Publisher: Altium Limited; HelpURL: http://toolbox.xilinx.com/docsan/xilinx7/books/docs/lib/lib.pdf
pins: D (in), G (in), Q (out)

## ILD4
designator U?
Transparent Input Data Latch; FPGAVendor: Xilinx; Published: 15-Sep-2003; Publisher: Altium Limited; HelpURL: http://toolbox.xilinx.com/docsan/xilinx7/books/docs/lib/lib.pdf
pins: D0 (in), D1 (in), D2 (in), D3 (in), G (in), Q0 (out), Q1 (out), Q2 (out), Q3 (out)

## ILD8
designator U?
Transparent Input Data Latch; FPGAVendor: Xilinx; Published: 15-Sep-2003; Publisher: Altium Limited; HelpURL: http://toolbox.xilinx.com/docsan/xilinx7/books/docs/lib/lib.pdf
pins: D[7..0] (in), G (in), Q[7..0] (out)

## ILD16
designator U?
Transparent Input Data Latch; FPGAVendor: Xilinx; Published: 15-Sep-2003; Publisher: Altium Limited; HelpURL: http://toolbox.xilinx.com/docsan/xilinx7/books/docs/lib/lib.pdf
pins: D[15..0] (in), G (in), Q[15..0] (out)

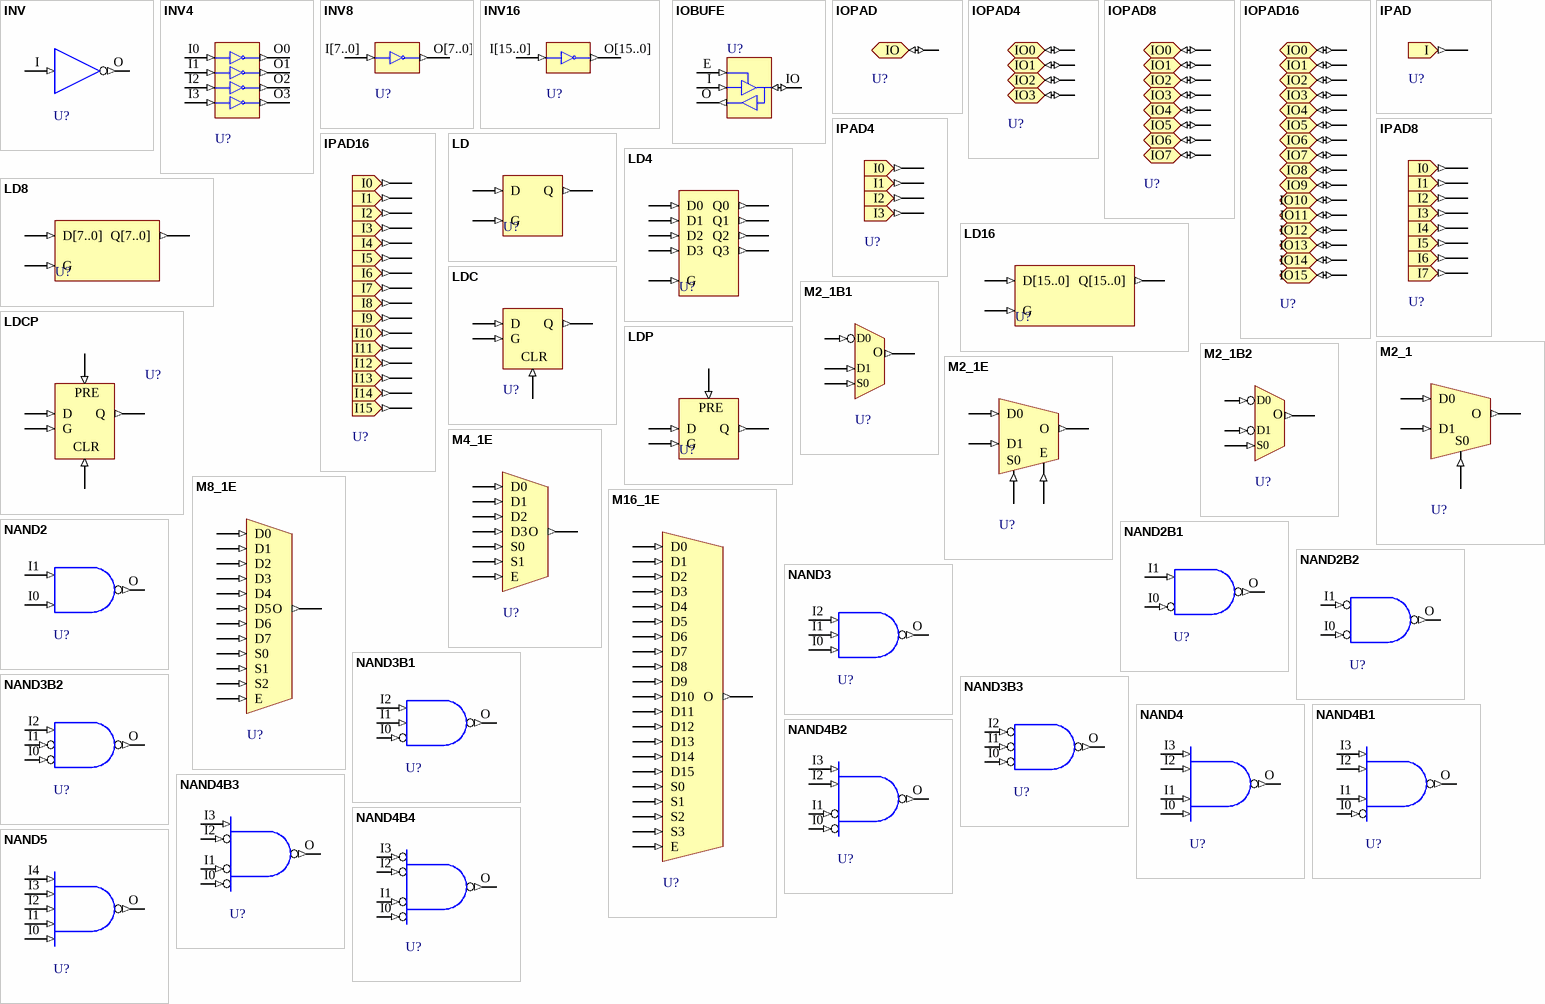
[diagram p4: symbols INV to NAND5]

## INV
designator U?
Inverter; FPGAVendor: Xilinx; Published: 15-Sep-2003; Publisher: Altium Limited; HelpURL: http://toolbox.xilinx.com/docsan/xilinx7/books/docs/lib/lib.pdf
pins: I (in), O (out)

## INV4
designator U?
4 x Inverters; FPGAVendor: Xilinx; Published: 15-Sep-2003; Publisher: Altium Limited; HelpURL: http://toolbox.xilinx.com/docsan/xilinx7/books/docs/lib/lib.pdf
pins: I0 (in), I1 (in), I2 (in), I3 (in), O0 (out), O1 (out), O2 (out), O3 (out)

## INV8
designator U?
8 x Inverters; FPGAVendor: Xilinx; Published: 15-Sep-2003; Publisher: Altium Limited; HelpURL: http://toolbox.xilinx.com/docsan/xilinx7/books/docs/lib/lib.pdf
pins: I[7..0] (in), O[7..0] (out)

## INV16
designator U?
16 x Inverters; FPGAVendor: Xilinx; Published: 15-Sep-2003; Publisher: Altium Limited; HelpURL: http://toolbox.xilinx.com/docsan/xilinx7/books/docs/lib/lib.pdf
pins: I[15..0] (in), O[15..0] (out)

## IOBUFE
designator U?
Bi-Directional Buffer; FPGAVendor: Xilinx; Published: 15-Sep-2003; Publisher: Altium Limited; HelpURL: http://toolbox.xilinx.com/docsan/xilinx7/books/docs/lib/lib.pdf
pins: E (in), I (in), IO (io), O (out)

## IOPAD
designator U?
Single-Input/Output Pad; FPGAVendor: Xilinx; Published: 15-Sep-2003; Publisher: Altium Limited; HelpURL: http://toolbox.xilinx.com/docsan/xilinx7/books/docs/lib/lib.pdf
pins: IO (io)

## IOPAD4
designator U?
Multiple-Input/Output Pads; FPGAVendor: Xilinx; Published: 15-Sep-2003; Publisher: Altium Limited; HelpURL: http://toolbox.xilinx.com/docsan/xilinx7/books/docs/lib/lib.pdf
pins: IO0 (io), IO1 (io), IO2 (io), IO3 (io)

## IOPAD8
designator U?
Multiple-Input/Output Pads; FPGAVendor: Xilinx; Published: 15-Sep-2003; Publisher: Altium Limited; HelpURL: http://toolbox.xilinx.com/docsan/xilinx7/books/docs/lib/lib.pdf
pins: IO0 (io), IO1 (io), IO2 (io), IO3 (io), IO4 (io), IO5 (io), IO6 (io), IO7 (io)

## IOPAD16
designator U?
Multiple-Input/Output Pads; FPGAVendor: Xilinx; Published: 15-Sep-2003; Publisher: Altium Limited; HelpURL: http://toolbox.xilinx.com/docsan/xilinx7/books/docs/lib/lib.pdf
pins: IO0 (io), IO1 (io), IO2 (io), IO3 (io), IO4 (io), IO5 (io), IO6 (io), IO7 (io), IO8 (io), IO9 (io), IO10 (io), IO11 (io), IO12 (io), IO13 (io), IO14 (io), IO15 (io)

## IPAD
designator U?
Single-Input Pad; FPGAVendor: Xilinx; Published: 15-Sep-2003; Publisher: Altium Limited; HelpURL: http://toolbox.xilinx.com/docsan/xilinx7/books/docs/lib/lib.pdf
pins: I (out)

## IPAD4
designator U?
Multiple-Input Pads; FPGAVendor: Xilinx; Published: 15-Sep-2003; Publisher: Altium Limited; HelpURL: http://toolbox.xilinx.com/docsan/xilinx7/books/docs/lib/lib.pdf
pins: I0 (out), I1 (out), I2 (out), I3 (out)